# Altium footprint library power.PcbLib: 6 footprints
Each footprint in its own frame and in the unit in brackets; x right, y up, seen from the top. Pads: shape width x height; smd on the part's side, far side on the other; paste and mask are expansions set on the pad; w line width, h text height; cw(c..) or ccw(c..) is an arc to the next point about the centre after c.
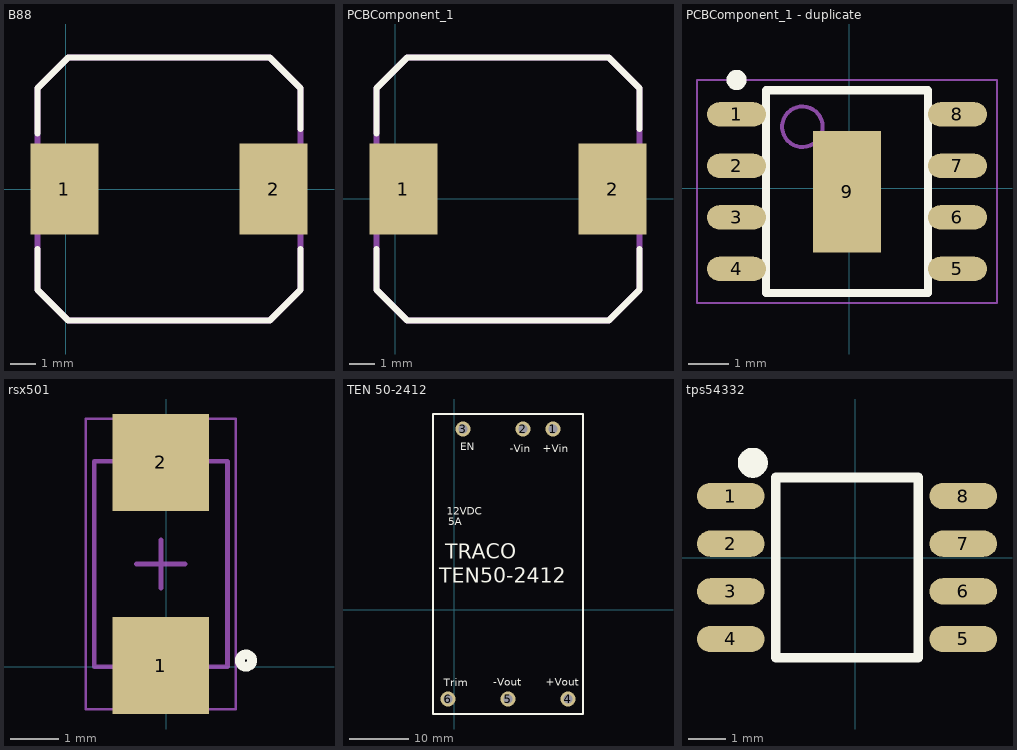
[diagram p0: the footprints below, top view; thin cyan lines are the x and y axes]

## B88 [mm]
pads (2):
  rect 2.7x3.599 smd: 1(-0.047,0) 2(8.233,0)
Top Overlay:
  lines w0.254: -1.114,-2.388 -1.114,-3.988 0.105,-5.207 8.081,-5.207 9.3,-3.988 9.3,-2.388 ; -1.114,2.21 -1.114,3.988 0.105,5.207 8.081,5.207 9.3,3.988 9.3,2.388
Mechanical 15:
  lines w0.254: -1.114,-3.988 -1.114,3.988 0.105,5.207 8.081,5.207 9.3,3.988 9.3,-3.988 8.081,-5.207 0.105,-5.207 -1.114,-3.988

## PCBComponent_1 [mil]
pads (2):
  rect 106.3x141.7 smd: 1(13.15,15) 2(339.15,15)
Top Overlay:
  lines w10: -28.85,-79 -28.85,-142 19.15,-190 333.15,-190 381.15,-142 381.15,-79 ; -28.85,102 -28.85,172 19.15,220 333.15,220 381.15,172 381.15,109
Mechanical 15:
  lines w10: -28.85,-142 19.15,-190 333.15,-190 381.15,-142 381.15,172 333.15,220 19.15,220 -28.85,172 -28.85,-142

## PCBComponent_1 - duplicate [mm]
pads (9):
  oval 1.45x0.6 smd: 1(-2.783,1.82) 2(-2.783,0.55) 3(-2.783,-0.72) 4(-2.783,-1.99) 5(2.667,-1.99) 6(2.667,-0.72) 7(2.667,0.55) 8(2.667,1.82)
  rect 1.67x3 smd: 9(-0.058,-0.085)
Top Overlay:
  circle w0.25: c-2.783,2.67 r0.125
  lines w0.2: -2.058,-2.585 1.942,-2.585 1.942,2.415 -2.058,2.415 -2.058,-2.585
Mechanical 13:
  circle w0.1: c-1.158,1.515 r0.5
  lines w0.1: -2.058,-2.585 1.942,-2.585 1.942,2.415 -2.058,2.415 -2.058,-2.585
Mechanical 15:
  lines w0.05: -3.758,-2.835 3.642,-2.835 3.642,2.665 -3.758,2.665 -3.758,-2.835
  lines w0.1: -0.558,-0.085 0.442,-0.085 ; -0.058,-0.585 -0.058,0.415
3D body: height 1.7, standoff 0.15, extent -2.058,-2.585 1.942,2.415

## rsx501 [mm]
pads (2):
  rect 2x2 smd: 1(-0.109,0.023) 2(-0.109,4.223)
Top Overlay:
  circle w0.203: c1.651,0.127 r0.127
Mechanical 13:
  lines w0.1: -1.484,-0.002 -1.484,4.248 1.266,4.248 1.266,-0.002 -1.484,-0.002
Mechanical 15:
  lines w0.05: -1.659,-0.877 -1.659,5.123 1.441,5.123 1.441,-0.877 -1.659,-0.877
  lines w0.1: -0.609,2.123 0.391,2.123 ; -0.109,1.623 -0.109,2.623
3D body: height 2.2, standoff 0, extent -1.484,-0.002 1.266,4.248

## TEN 50-2412 [mil]
pads (6):
  round 100 hole 60: 1(658.15,1205) 2(458.15,1205) 3(58.15,1205) 4(758.15,-595) 5(358.15,-595) 6(-41.85,-595)
Top Overlay:
  lines w12: -141.85,-695 358.15,-695 858.15,-695 858.15,1305 -141.85,1305 -141.85,-695
  text "Trim" at -71.85,-510 h50
  text "+Vin" at 588.15,1050.5 h50
  text "-Vin" at 368.15,1050.5 h50
  text "+Vout" at 608.15,-507.3 h50
  text "-Vout" at 258.15,-507.3 h50
  text "TRACO" at -61.85,340.5 h100
  text "TEN50-2412" at -101.85,180.5 h100
  text "12VDC" at -51.85,632.7 h50
  text "5A" at -41.85,562.7 h50
  text "EN" at 38.15,1062.7 h50

## tps54332 [mm]
pads (8):
  oval 1.8x0.7 smd: 1(-3.324,1.651) 2(-3.324,0.381) 3(-3.324,-0.889) 4(-3.324,-2.159) 5(2.874,-2.159) 6(2.874,-0.889) 7(2.874,0.381) 8(2.874,1.651)
Top Overlay:
  lines w0.254: -2.13,-2.654 -2.13,2.146 1.175,2.146 1.68,2.146 1.68,-2.654 -2.13,-2.654
  lines w0.4: -2.536,2.537 cw(c-2.736,2.539) -2.536,2.54